# Altium footprint library IlamStuff.PcbLib: 17 footprints (part 1 of 2)
Each footprint in its own frame and in the unit in brackets; x right, y up, seen from the top. Pads: shape width x height; smd on the part's side, far side on the other; paste and mask are expansions set on the pad; w line width, h text height; cw(c..) or ccw(c..) is an arc to the next point about the centre after c.
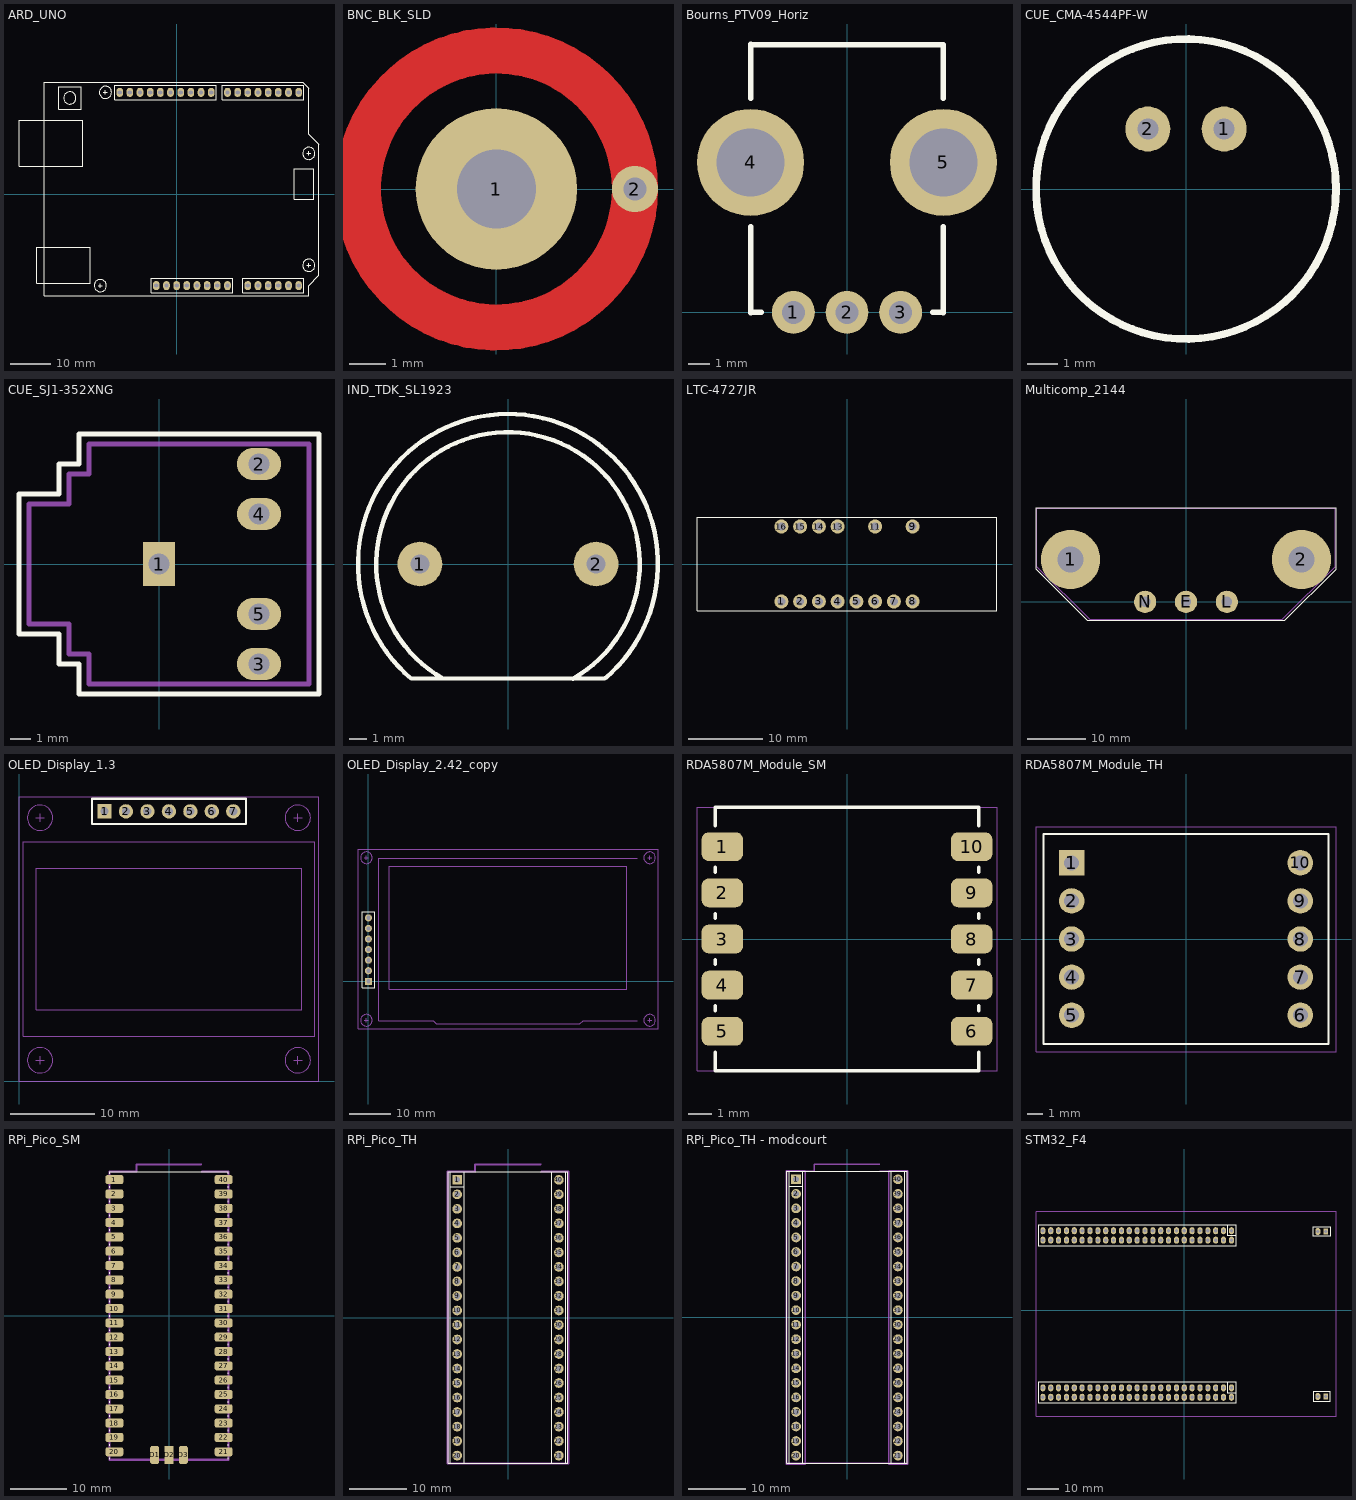
[diagram p0: the footprints below, top view; thin cyan lines are the x and y axes]

## ARD_UNO [mil]
pads (32):
  rrect100% 65x90 hole 42: 0(1200,1000) 1(1100,1000) 2(1000,1000) 3(900,1000) 3V3(100,-900) 4(800,1000) 5(700,1000) 5V(200,-900) 6(600,1000) 7(500,1000) 8(340,1000) 9(240,1000) 10(140,1000) 11(40,1000) 12(-60,1000) 13(-160,1000) A0(700,-900) A1(800,-900) A2(900,-900) A3(1000,-900) A4/1(1100,-900) A4/2(-460,1000) A5/1(1200,-900) A5/2(-560,1000) AREF(-360,1000) GND1(300,-900) GND2(400,-900) GND3(-260,1000) IREF(-100,-900) NC(-200,-900) RST(0,-900) VIN(500,-900)
F.SilkS:
  circle w0.39: c-700,1000 r60
  circle w0.39: c-750,-900 r60
  circle w0.39: c1300,-700 r60
  circle w0.39: c1300,400 r60
  circle w0.39: c-1050,945 r60
  lines w0.39: -770,-900 -730,-900 ; -750,-920 -750,-880 ; -720,1000 -680,1000 ; -700,980 -700,1020 ; 1280,-700 1320,-700 ; 1280,400 1320,400 ; 1300,-720 1300,-680 ; 1300,380 1300,420 ; -1550,275 -925,275 -925,725 -1550,725 -1550,275 ; -1375,-875 -850,-875 -850,-525 -1375,-525 -1375,-875 ; -1160,835 -1160,1055 -940,1055 -940,835 -1160,835 ; 1155,-50 1155,250 1350,250 1350,-50 1155,-50
  lines w5.91: -1300,-1000 -1300,1100 1240,1100 1300,1040 1300,900 1300,590 1400,490 1400,-800 1300,-900 1300,-1000 -1300,-1000 ; -610,930 -610,1070 390,1070 390,930 -610,930 ; -250,-970 -250,-830 550,-830 550,-970 -250,-970 ; 450,930 1250,930 1250,1070 450,1070 450,930 ; 650,-970 1250,-970 1250,-830 650,-830 650,-970

## BNC_BLK_SLD [mil]
pads (2):
  round 175 hole 86: 1(0,0)
  round 50 hole 25: 2(150,0)
F.Cu:
  circle w50: c0,0 r150

## Bourns_PTV09_Horiz [mm]
pads (5):
  round 2 hole 1.067: 1(-2.5,0) 2(0,0) 3(2.5,0)
  round 5 hole 3.175: 4(-4.5,7) 5(4.5,7)
F.SilkS:
  lines w0.254: -4.5,-0.016 -4.5,4 ; -4.5,0 -4,0 ; -4.5,10 -4.5,12.516 ; -4.5,12.5 4.5,12.5 4.5,10 ; 4,0 4.5,0 ; 4.5,-0.016 4.5,4

## CUE_CMA-4544PF-W [mm]
pads (2):
  round 1.5 hole 0.7: 1(1.27,2) 2(-1.27,2)
F.SilkS:
  circle w0.254: c0,0 r5

## CUE_SJ1-352XNG [mm]
pads (5):
  rect 1.6x2.2 hole 1.05: 1(0,0)
  rrect100% 2.2x1.6 hole 1.05: 2(5,5) 3(5,-5) 4(5,2.5) 5(5,-2.5)
F.SilkS:
  lines w0.25: -7,-3.5 -5,-3.5 -5,-5 -4,-5 -4,-6.5 8,-6.5 8,6.5 -4,6.5 -4,5 -5,5 -5,3.5 -7,3.5 -7,-3.5
F.Fab:
  lines w0.25: -6.5,-3 -4.5,-3 -4.5,-4.5 -3.5,-4.5 -3.5,-6 7.5,-6 7.5,6 -3.5,6 -3.5,4.5 -4.5,4.5 -4.5,3 -6.5,3 -6.5,-3

## IND_TDK_SL1923 [mil]
pads (2):
  round 100 hole 42: 1(-196.85,0) 2(196.85,0)
F.SilkS:
  lines w10: -145.67,-255.91 cw(c0,0) 144.33,-256.66 ; 216.54,-255.91 -216.54,-255.91 cw(c0,0) 218.88,-253.9

## LTC-4727JR [mil]
pads (14):
  round 75 hole 42: 1(-350,-200) 2(-250,-200) 3(-150,-200) 4(-50,-200) 5(50,-200) 6(150,-200) 7(250,-200) 8(350,-200) 9(350,200) 11(150,200) 13(-50,200) 14(-150,200) 15(-250,200) 16(-350,200)
F.SilkS:
  lines w5.91: -800,-250 -800,250 800,250 800,-250 -800,-250

## Multicomp_2144 [mm]
pads (5):
  round 10.16 hole 4.496: 1(-19.75,7.25) 2(19.75,7.25)
  round 3.81 hole 1.778: E(0,0) L(7,0) N(-7,0)
F.SilkS:
  lines w0.12: -25.654,5.588 -16.891,-3.175 16.891,-3.175 25.654,5.588 25.654,16.129 -25.654,16.129 -25.654,5.588
F.CrtYd:
  lines w0.12: -25.5,6 -25.5,16 25.5,16 25.5,6 16.5,-3 -16.5,-3 -25.5,6

## OLED_Display_1.3 [mm]
pads (7):
  rect 1.7x1.7 hole 1: 1(10.12,31.95)
  round 1.7 hole 1: 2(12.66,31.95) 3(15.2,31.95) 4(17.74,31.95) 5(20.28,31.95) 6(22.82,31.95) 7(25.36,31.95)
F.SilkS:
  lines w0.25: 8.62,30.45 8.62,33.45 26.87,33.45 26.87,30.45 8.62,30.45
F.Fab:
  circle w0.1: c2.5,31.2 r1.5
  circle w0.1: c2.5,2.5 r1.5
  circle w0.1: c33,31.2 r1.5
  circle w0.1: c33,2.5 r1.5
  lines w0.1: 2,2.5 3,2.5 ; 2,31.2 3,31.2 ; 2.5,2 2.5,3 ; 2.5,30.7 2.5,31.7 ; 32.5,2.5 33.5,2.5 ; 32.5,31.2 33.5,31.2 ; 33,2 33,3 ; 33,30.7 33,31.7 ; 0,0 35.5,0 35.5,33.7 0,33.7 0,0 ; 0.5,5.35 35,5.35 35,28.35 0.5,28.35 0.5,5.35 ; 2.04,8.5 33.46,8.5 33.46,25.2 2.04,25.2 2.04,8.5
  text "'.Designator'" at 14.243,16.62 h1

## OLED_Display_2.42_copy [mm]
pads (7):
  rect 1.7x1.7 hole 1: 1(0,0)
  round 1.7 hole 1: 2(0,2.54) 3(0,5.08) 4(0,7.62) 5(0,10.16) 6(0,12.7) 7(0,15.24)
F.SilkS:
  lines w0.25: -1.5,-1.5 1.5,-1.5 1.5,16.75 -1.5,16.75 -1.5,-1.5
F.Fab:
  circle w0.1: c-0.5,29.66 r1.4
  circle w0.1: c-0.5,-9.34 r1.4
  circle w0.1: c67.5,29.66 r1.4
  circle w0.1: c67.5,-9.34 r1.4
  lines w0.05: -2.5,-11.34 69.5,-11.34 69.5,31.66 -2.5,31.66 -2.5,-11.34 ; 5,-1.94 62,-1.94 62,27.56 5,27.56 5,-1.94
  lines w0.1: -1,-9.34 0,-9.34 ; -1,29.66 0,29.66 ; -0.5,-9.84 -0.5,-8.84 ; -0.5,29.16 -0.5,30.16 ; 67,-9.34 68,-9.34 ; 67,29.66 68,29.66 ; 67.5,-9.84 67.5,-8.84 ; 67.5,29.16 67.5,30.16
  lines w0.254: 64.5,-9.44 51.5,-9.44 50.7,-10.24 16.3,-10.24 15.52,-9.44 2.5,-9.44 2.5,29.56 64.5,29.56
  text "'.Designator'" at 30.953,11.95 h1

## RDA5807M_Module_SM [mm]
pads (10):
  rrect50% 1.8x1.25 smd: 1(-5.4,4) 2(-5.4,2) 3(-5.4,0) 4(-5.4,-2) 5(-5.4,-4) 6(5.4,-4) 7(5.4,-2) 8(5.4,0) 9(5.4,2) 10(5.4,4)
F.SilkS:
  lines w0.15: -5.7,-4.9 -5.7,-5.7 5.7,-5.7 5.7,-4.9 ; -5.7,-3.1 -5.7,-2.9 ; -5.7,-1.1 -5.7,-0.9 ; -5.7,0.9 -5.7,1.1 ; -5.7,2.9 -5.7,3.1 ; -5.7,4.9 -5.7,5.7 5.7,5.7 5.7,4.9 ; 5.7,-3.1 5.7,-2.9 ; 5.7,-1.1 5.7,-0.9 ; 5.7,0.9 5.7,1.1 ; 5.7,2.9 5.7,3.1
F.CrtYd:
  lines w0.05: -6.5,-5.7 -6.5,5.7 6.5,5.7 6.5,-5.7 -6.5,-5.7
F.Fab:
  text "'.Designator'" at -6.347,2.16 h1

## RDA5807M_Module_TH [mm]
pads (10):
  rect 1.7x1.7 hole 1: 1(-7.62,5.08)
  round 1.7 hole 1: 2(-7.62,2.54) 3(-7.62,0) 4(-7.62,-2.54) 5(-7.62,-5.08) 6(7.62,-5.08) 7(7.62,-2.54) 8(7.62,0) 9(7.62,2.54) 10(7.62,5.08)
F.SilkS:
  lines w0.15: -9.5,-7 9.5,-7 9.5,7 -9.5,7 -9.5,-7
F.CrtYd:
  lines w0.05: -10,-7.5 10,-7.5 10,7.5 -10,7.5 -10,-7.5
F.Fab:
  text "'.Designator'" at -7.547,1.16 h1

## RPi_Pico_SM [mm]
pads (43):
  rrect50% 3.2x1.6 smd: 1(-9.69,24.13) 2(-9.69,21.59) 3(-9.69,19.05) 4(-9.69,16.51) 5(-9.69,13.97) 6(-9.69,11.43) 7(-9.69,8.89) 8(-9.69,6.35) 9(-9.69,3.81) 10(-9.69,1.27) 11(-9.69,-1.27) 12(-9.69,-3.81) 13(-9.69,-6.35) 14(-9.69,-8.89) 15(-9.69,-11.43) 16(-9.69,-13.97) 17(-9.69,-16.51) 18(-9.69,-19.05) 19(-9.69,-21.59) 20(-9.69,-24.13) 21(9.69,-24.13) 22(9.69,-21.59) 23(9.69,-19.05) 24(9.69,-16.51) 25(9.69,-13.97) 26(9.69,-11.43) 27(9.69,-8.89) 28(9.69,-6.35) 29(9.69,-3.81) 30(9.69,-1.27) 31(9.69,1.27) 32(9.69,3.81) 33(9.69,6.35) 34(9.69,8.89) 35(9.69,11.43) 36(9.69,13.97) 37(9.69,16.51) 38(9.69,19.05) 39(9.69,21.59) 40(9.69,24.13)
  rrect50% 1.6x3.2 smd: D1(-2.54,-24.7) D3(2.54,-24.7)
  rrect12% 1.6x3.2 smd: D2(0,-24.7)
F.SilkS:
  lines w0.12: -10.5,-25.5 -10.5,-25.2 ; -10.5,-23.025 -10.5,-22.775 ; -10.5,-20.485 -10.5,-20.235 ; -10.5,-17.945 -10.5,-17.695 ; -10.5,-15.405 -10.5,-15.155 ; -10.5,-12.865 -10.5,-12.615 ; -10.5,-10.325 -10.5,-10.075 ; -10.5,-7.785 -10.5,-7.535 ; -10.5,-5.245 -10.5,-4.995 ; -10.5,-2.705 -10.5,-2.455 ; -10.5,-0.165 -10.5,0.085 ; -10.5,2.375 -10.5,2.625 ; -10.5,4.915 -10.5,5.165 ; -10.5,7.455 -10.5,7.705 ; -10.5,9.995 -10.5,10.245 ; -10.5,12.535 -10.5,12.785 ; -10.5,15.075 -10.5,15.325 ; -10.5,17.615 -10.5,17.865 ; -10.5,20.155 -10.5,20.405 ; -10.5,22.695 -10.5,22.945 ; -10.5,25.2 -10.5,25.5 10.5,25.5 10.5,25.2 ; 10.5,-25.5 10.5,-25.2 ; 10.5,-23.025 10.5,-22.775 ; 10.5,-20.485 10.5,-20.235 ; 10.5,-17.945 10.5,-17.695 ; 10.5,-15.405 10.5,-15.155 ; 10.5,-12.865 10.5,-12.615 ; 10.5,-10.325 10.5,-10.075 ; 10.5,-7.785 10.5,-7.535 ; 10.5,-5.245 10.5,-4.995 ; 10.5,-2.705 10.5,-2.455 ; 10.5,-0.165 10.5,0.085 ; 10.5,2.375 10.5,2.625 ; 10.5,4.915 10.5,5.165 ; 10.5,7.455 10.5,7.705 ; 10.5,9.995 10.5,10.245 ; 10.5,12.535 10.5,12.785 ; 10.5,15.075 10.5,15.325 ; 10.5,17.615 10.5,17.865 ; 10.5,20.155 10.5,20.405 ; 10.5,22.695 10.5,22.945
F.CrtYd:
  lines w0.254: 5.8,25.6 10.6,25.6 10.6,-25.6 -10.6,-25.6 -10.6,25.6 -5.8,25.6 -5.8,26.9 5.8,26.9
F.Fab:
  lines w0.254: 5.7,25.5 10.5,25.5 10.5,-25.5 -10.5,-25.5 -10.5,25.5 -5.7,25.5 -5.7,26.8 5.7,26.8
  text "Keep Out" at -1.783,11.953 h1
  text "USB" at -1.3,25.55 h1
  text "Keep Out" at -3.147,23.383 h1
  text "Keep Out" at -3.147,20.283 h1
  text "'.Designator'" at -4.047,-2.34 h1

## RPi_Pico_TH [mm]
pads (40):
  rect 1.7x1.7 hole 1: 1(-8.89,24.13)
  round 1.7 hole 1: 2(-8.89,21.59) 3(-8.89,19.05) 4(-8.89,16.51) 5(-8.89,13.97) 6(-8.89,11.43) 7(-8.89,8.89) 8(-8.89,6.35) 9(-8.89,3.81) 10(-8.89,1.27) 11(-8.89,-1.27) 12(-8.89,-3.81) 13(-8.89,-6.35) 14(-8.89,-8.89) 15(-8.89,-11.43) 16(-8.89,-13.97) 17(-8.89,-16.51) 18(-8.89,-19.05) 19(-8.89,-21.59) 20(-8.89,-24.13) 21(8.89,-24.13) 22(8.89,-21.59) 23(8.89,-19.05) 24(8.89,-16.51) 25(8.89,-13.97) 26(8.89,-11.43) 27(8.89,-8.89) 28(8.89,-6.35) 29(8.89,-3.81) 30(8.89,-1.27) 31(8.89,1.27) 32(8.89,3.81) 33(8.89,6.35) 34(8.89,8.89) 35(8.89,11.43) 36(8.89,13.97) 37(8.89,16.51) 38(8.89,19.05) 39(8.89,21.59) 40(8.89,24.13)
F.SilkS:
  lines w0.12: -10.1,-25.5 -10.1,25.5 ; -10.1,22.9 -7.7,22.9 ; -7.7,-25.5 -7.7,25.5 ; 7.7,-25.5 7.7,25.5 ; 10.1,-25.5 10.1,25.5 ; -10.5,-25.5 10.5,-25.5 10.5,25.5 -10.5,25.5 -10.5,-25.5
F.CrtYd:
  lines w0.254: 5.8,25.6 10.6,25.6 10.6,-25.6 -10.6,-25.6 -10.6,25.6 -5.8,25.6 -5.8,26.9 5.8,26.9
F.Fab:
  lines w0.254: 5.7,25.5 10.5,25.5 10.5,-25.5 -10.5,-25.5 -10.5,25.5 -5.7,25.5 -5.7,26.8 5.7,26.8
  text "'.Designator'" at -4.047,1.7 h1

## RPi_Pico_TH - modcourt [mm] "Modifying the courtyard to make it legal(?) to put stuff under it."
pads (40):
  rect 1.7x1.7 hole 1: 1(-8.89,24.13)
  round 1.7 hole 1: 2(-8.89,21.59) 3(-8.89,19.05) 4(-8.89,16.51) 5(-8.89,13.97) 6(-8.89,11.43) 7(-8.89,8.89) 8(-8.89,6.35) 9(-8.89,3.81) 10(-8.89,1.27) 11(-8.89,-1.27) 12(-8.89,-3.81) 13(-8.89,-6.35) 14(-8.89,-8.89) 15(-8.89,-11.43) 16(-8.89,-13.97) 17(-8.89,-16.51) 18(-8.89,-19.05) 19(-8.89,-21.59) 20(-8.89,-24.13) 21(8.89,-24.13) 22(8.89,-21.59) 23(8.89,-19.05) 24(8.89,-16.51) 25(8.89,-13.97) 26(8.89,-11.43) 27(8.89,-8.89) 28(8.89,-6.35) 29(8.89,-3.81) 30(8.89,-1.27) 31(8.89,1.27) 32(8.89,3.81) 33(8.89,6.35) 34(8.89,8.89) 35(8.89,11.43) 36(8.89,13.97) 37(8.89,16.51) 38(8.89,19.05) 39(8.89,21.59) 40(8.89,24.13)
F.SilkS:
  lines w0.12: -10.1,-25.5 -10.1,25.5 ; -10.1,22.9 -7.7,22.9 ; -7.7,-25.5 -7.7,25.5 ; 7.7,-25.5 7.7,25.5 ; 10.1,-25.5 10.1,25.5 ; -10.5,-25.5 10.5,-25.5 10.5,25.5 -10.5,25.5 -10.5,-25.5
F.CrtYd:
  lines w0.254: -10.6,-25.6 -10.6,25.6 -7.3,25.6 -7.3,-25.6 -10.6,-25.6 ; 7.3,-25.6 7.3,25.6 10.6,25.6 10.6,-25.6 7.3,-25.6
F.Fab:
  lines w0.254: 5.7,25.5 10.5,25.5 10.5,-25.5 -10.5,-25.5 -10.5,25.5 -5.7,25.5 -5.7,26.8 5.7,26.8
  text "'.Designator'" at -4.047,1.7 h1

## STM32_F4 [mil]
pads (104):
  rrect100% 65x90 hole 42: 1-1(600,1010) 1-2(600,890) 1-3(500,1010) 1-4(500,890) 1-5(400,1010) 1-6(400,890) 1-7(300,1010) 1-8(300,890) 1-9(200,1010) 1-10(200,890) 1-11(100,1010) 1-12(100,890) 1-13(0,1010) 1-14(0,890) 1-15(-100,1010) 1-16(-100,890) 1-17(-200,1010) 1-18(-200,890) 1-19(-300,1010) 1-20(-300,890) 1-21(-400,1010) 1-22(-400,890) 1-23(-500,1010) 1-24(-500,890) 1-25(-600,1010) 1-26(-600,890) 1-27(-700,1010) 1-28(-700,890) 1-29(-800,1010) 1-30(-800,890) 1-31(-900,1010) 1-32(-900,890) 1-33(-1000,1010) 1-34(-1000,890) 1-35(-1100,1010) 1-36(-1100,890) 1-37(-1200,1010) 1-38(-1200,890) 1-39(-1300,1010) 1-40(-1300,890) 1-41(-1400,1010) 1-42(-1400,890) 1-43(-1500,1010) 1-44(-1500,890) 1-45(-1600,1010) 1-46(-1600,890) 1-47(-1700,1010) 1-48(-1700,890) 1-49(-1800,1010) 1-50(-1800,890) 2-1(600,-990) 2-2(600,-1110) 2-3(500,-990) 2-4(500,-1110) 2-5(400,-990) 2-6(400,-1110) 2-7(300,-990) 2-8(300,-1110) 2-9(200,-990) 2-10(200,-1110) 2-11(100,-990) 2-12(100,-1110) 2-13(0,-990) 2-14(0,-1110) 2-15(-100,-990) 2-16(-100,-1110) 2-17(-200,-990) 2-18(-200,-1110) 2-19(-300,-990) 2-20(-300,-1110) 2-21(-400,-990) 2-22(-400,-1110) 2-23(-500,-990) 2-24(-500,-1110) 2-25(-600,-990) 2-26(-600,-1110) 2-27(-700,-990) 2-28(-700,-1110) 2-29(-800,-990) 2-30(-800,-1110) 2-31(-900,-990) 2-32(-900,-1110) 2-33(-1000,-990) 2-34(-1000,-1110) 2-35(-1100,-990) 2-36(-1100,-1110) 2-37(-1200,-990) 2-38(-1200,-1110) 2-39(-1300,-990) 2-40(-1300,-1110) 2-41(-1400,-990) 2-42(-1400,-1110) 2-43(-1500,-990) 2-44(-1500,-1110) 2-45(-1600,-990) 2-46(-1600,-1110) 2-47(-1700,-990) 2-48(-1700,-1110) 2-49(-1800,-990) 2-50(-1800,-1110) JP22(1699.95,1000) JP32(1699.95,-1100)
  rect 60x80 hole 42: JP21(1799.95,1000) JP31(1799.95,-1100)
F.SilkS:
  lines w5.91: 550,-920 550,-1050 660,-1050 ; 550,1080 550,950 660,950 ; -1860,-1180 -1860,-920 660,-920 660,-1180 -1860,-1180 ; -1860,820 -1860,1080 660,1080 660,820 -1860,820 ; 1640,-1160 1640,-1040 1860,-1040 1860,-1160 1640,-1160 ; 1640,940 1860,940 1860,1060 1640,1060 1640,940
F.CrtYd:
  lines w6: -1887.45,-1349.21 1931.45,-1349.21 1931.45,1249.21 -1887.45,1249.21 -1887.45,-1349.21